# Altium integrated library ECS-80-10-33-CGN-TR3.IntLib: 1 symbol
Pins are listed as number, name and electrical type; pins without a type are passive.

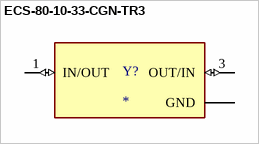
[diagram p0: symbol ECS-80-10-33-CGN-TR3]

## ECS-80-10-33-CGN-TR3
designator Y?
MP: ECS-80-10-33-CGN-TR3; Package: None; Price: None; Value: *; Availability: Unavailable
footprint XTAL_ECS-80-10-33-CGN-TR3
pins: 1 IN/OUT (io), 2 GND (power), 3 OUT/IN (io), 4 GND (power)